# Altium footprint library PCB - CONNECTOR - HARWIN - HARWIN M20-9740345.PcbLib: 1 footprints
Each footprint in its own frame and in the unit in brackets; x right, y up, seen from the top. Pads: shape width x height; smd on the part's side, far side on the other; paste and mask are expansions set on the pad; w line width, h text height; cw(c..) or ccw(c..) is an arc to the next point about the centre after c.
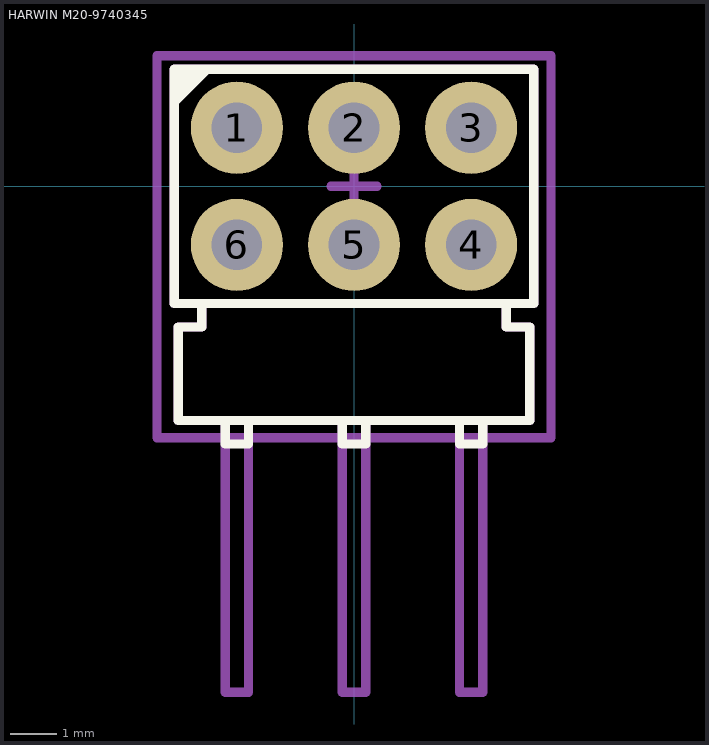
[diagram p0: the footprint, top view; thin cyan lines are the x and y axes]

## HARWIN M20-9740345 [mm] "2.54mm DIL PC TAIL PIN HEADER ASSEMBLY"
height 2.54
pads (6):
  round 2 hole 1.1: 1(-2.54,1.27) 2(0,1.27) 3(2.54,1.27) 4(2.54,-1.27) 5(0,-1.27) 6(-2.54,-1.27)
Top Overlay:
  region: -3.92,2.57 -3.92,1.67 -3.02,2.57
  lines w0.2: -3.302,-2.54 -3.302,-3.048 -3.81,-3.048 -3.81,-5.08 3.81,-5.08 3.81,-3.048 3.302,-3.048 3.302,-2.54 ; -2.794,-5.08 -2.794,-5.588 -2.286,-5.588 -2.286,-5.08 ; -0.254,-5.08 -0.254,-5.588 0.254,-5.588 0.254,-5.08 ; 2.286,-5.08 2.286,-5.588 2.794,-5.588 2.794,-5.08 ; -3.9,-2.54 3.9,-2.54 3.9,2.54 -3.9,2.54 -3.9,-2.54
Top Assembly:
  lines w0.2: -2.794,-2.54 -3.302,-2.54 -3.302,-3.048 -3.81,-3.048 -3.81,-5.08 -2.794,-5.08 -2.794,-10.97 -2.286,-10.97 -2.286,-5.08 -0.254,-5.08 -0.254,-10.97 0.254,-10.97 0.254,-5.08 2.286,-5.08 2.286,-10.97 2.794,-10.97 2.794,-5.08 3.81,-5.08 3.81,-3.048 3.302,-3.048 3.302,-2.54 2.794,-2.54 ; -0.5,0 0.5,0 ; 0,-0.5 0,0.5 ; -3.9,-2.54 3.9,-2.54 3.9,2.54 -3.9,2.54 -3.9,-2.54
Top Courtyard (Mech15):
  lines w0.2: -4.27,-5.454 4.27,-5.454 4.27,2.83 -4.27,2.83 -4.27,-5.454
3D body "M20-7830342.step": height 5, standoff -3.04, extent -3.81,-10.97 3.81,1.59